# Altium schematic symbol library Slit_Lamp_lib.SchLib: 4 symbols
Pins are listed as number, name and electrical type; pins without a type are passive.

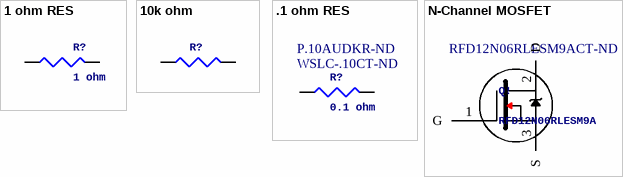
[diagram p0: symbols 1 ohm RES to N-Channel MOSFET]

## 1 ohm RES
designator R?, comment 1 ohm
pins: 1, 2

## 10k ohm
designator R?, comment 10K OHM  (value not drawn)
footprint RES 0805_2012 (Chip Resistor, 2-Leads, Body 2.00x1.25mm, IPC Medium Density)
pins: 1, 2

## .1 ohm RES
designator R?, comment 0.1 ohm  Supplier Part Number 1: WSLC-.10CT-ND  Supplier Part Number 2: P.10AUDKR-ND
Supplier 1: Digi-Key; Supplier 2: Digi-Key
footprint RES 1206_3216 (Chip Resistor, 2-Leads, Body 3.13x1.55mm, IPC Medium Density)
pins: 1, 2

## N-Channel MOSFET
designator Q!, comment RFD12N06RLESM9A  Supplier Part Number 1: RFD12N06RLESM9ACT-ND
Supplier 1: Digi-Key
footprint TO-252AA (MOSFET)
pins: 1 G, 2 D, 3 S